# Altium footprint library Connector_PinHeader_1.00mm.PcbLib: 278 footprints (part 3 of 18)
Each footprint in its own frame and in the unit in brackets; x right, y up, seen from the top. Pads: shape width x height; smd on the part's side, far side on the other; paste and mask are expansions set on the pad; w line width, h text height; cw(c..) or ccw(c..) is an arc to the next point about the centre after c.
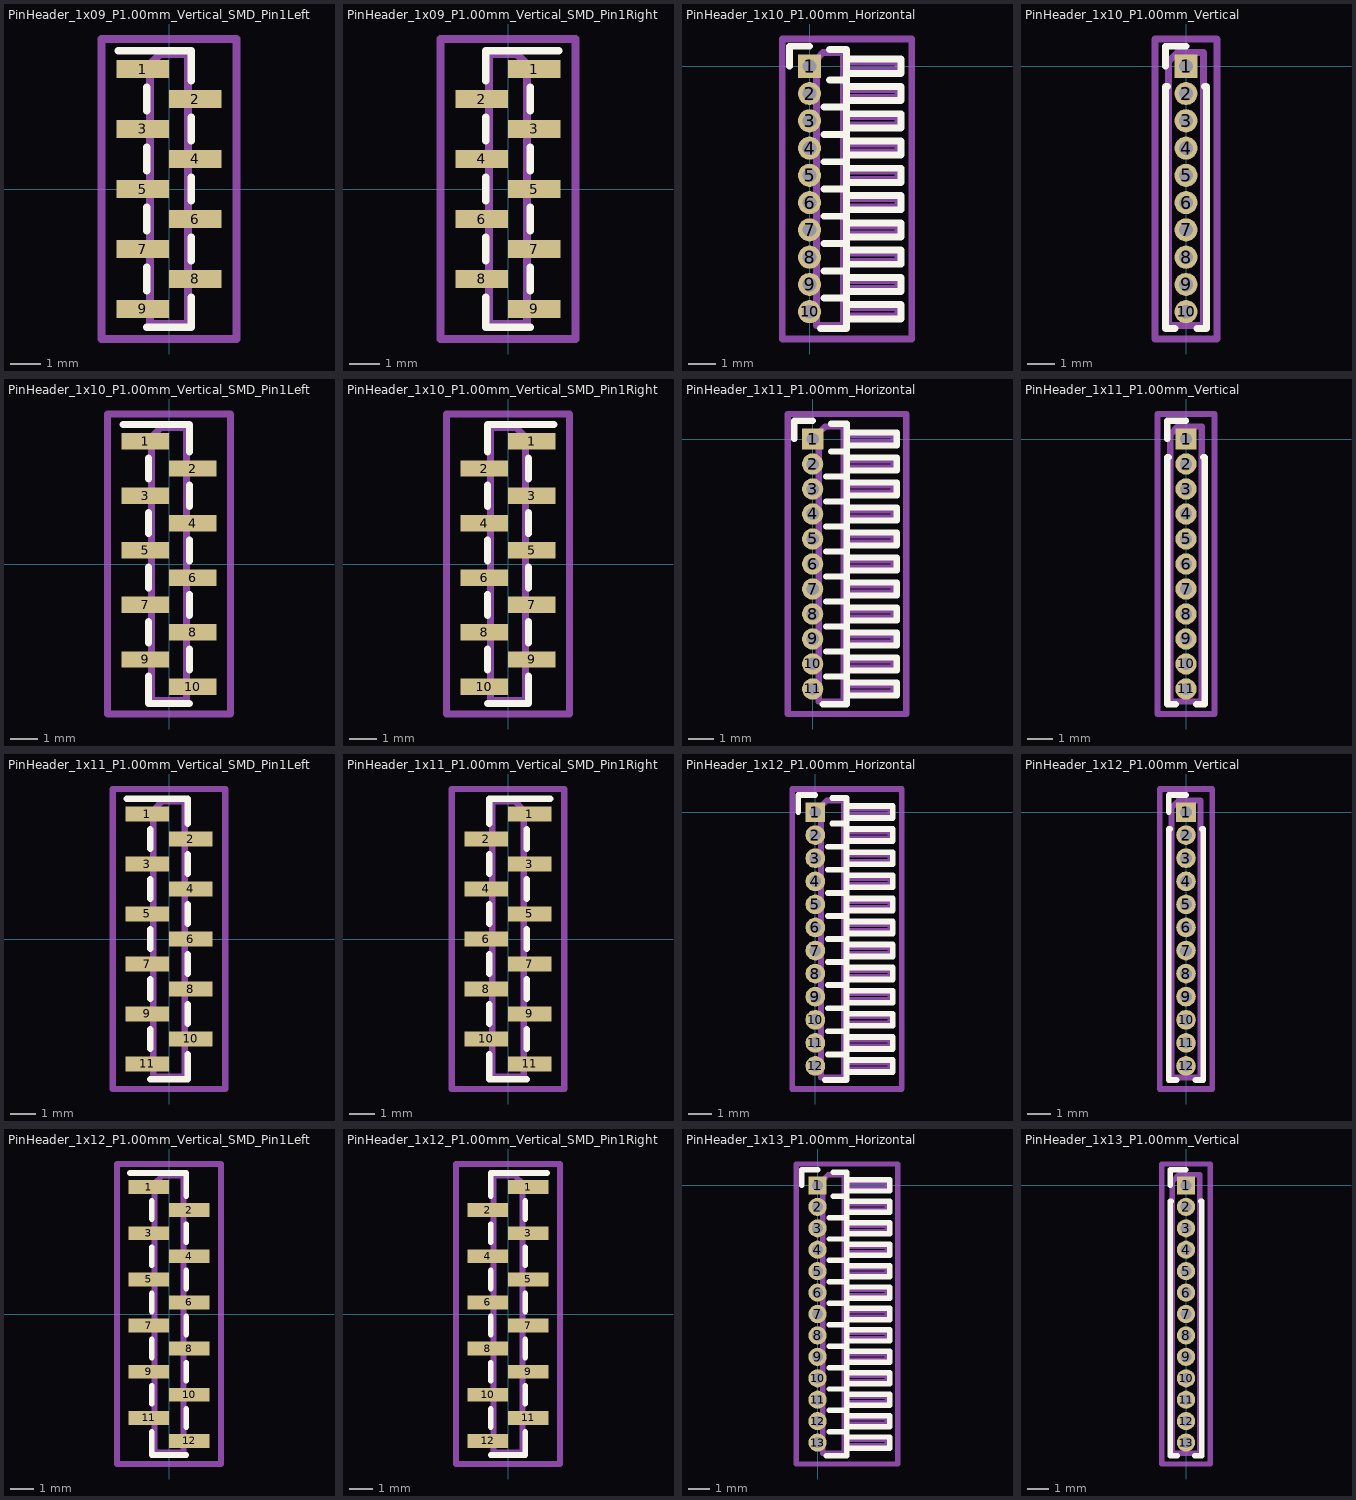
[diagram p2: the footprints below, top view; thin cyan lines are the x and y axes]

## PinHeader_1x09_P1.00mm_Vertical_SMD_Pin1Left [mm]
pads (9):
  rect 1.75x0.6 smd: 1(-0.875,4) 2(0.875,3) 3(-0.875,2) 4(0.875,1) 5(-0.875,0) 6(0.875,-1) 7(-0.875,-2) 8(0.875,-3) 9(-0.875,-4)
F.SilkS:
  lines w0.254: -1.69,4.61 -0.745,4.61 0.745,4.61 0.745,3.61 ; -0.745,-4.61 0.745,-4.61 0.745,-3.61 ; -0.745,-3.39 -0.745,-2.61 ; -0.745,-1.39 -0.745,-0.61 ; -0.745,0.61 -0.745,1.39 ; -0.745,2.61 -0.745,3.39 ; 0.745,-2.39 0.745,-1.61 ; 0.745,-0.39 0.745,0.39 ; 0.745,1.61 0.745,2.39
Top Assembly:
  lines w0.254: -0.635,-4.15 -1.25,-4.15 -1.25,-3.85 -0.635,-3.85 ; -0.635,-2.15 -1.25,-2.15 -1.25,-1.85 -0.635,-1.85 ; -0.635,-0.15 -1.25,-0.15 -1.25,0.15 -0.635,0.15 ; -0.635,1.85 -1.25,1.85 -1.25,2.15 -0.635,2.15 ; -0.635,3.85 -1.25,3.85 -1.25,4.15 -0.635,4.15 ; 0.635,-3.15 1.25,-3.15 1.25,-2.85 0.635,-2.85 ; 0.635,-1.15 1.25,-1.15 1.25,-0.85 0.635,-0.85 ; 0.635,0.85 1.25,0.85 1.25,1.15 0.635,1.15 ; 0.635,2.85 1.25,2.85 1.25,3.15 0.635,3.15 ; -0.635,4.15 -0.635,-4.5 0.635,-4.5 0.635,4.5 -0.285,4.5 -0.635,4.15
  text "'.Designator'" at 0.84,-4.047 h1
Top Courtyard:
  lines w0.254: -2.25,-5 2.25,-5 2.25,5 -2.25,5 -2.25,-5
Top Designator:
  text ".Designator" at -7.618,-0.508 h1.52

## PinHeader_1x09_P1.00mm_Vertical_SMD_Pin1Right [mm]
pads (9):
  rect 1.75x0.6 smd: 1(0.875,4) 2(-0.875,3) 3(0.875,2) 4(-0.875,1) 5(0.875,0) 6(-0.875,-1) 7(0.875,-2) 8(-0.875,-3) 9(0.875,-4)
F.SilkS:
  lines w0.254: -0.745,-3.61 -0.745,-4.61 0.745,-4.61 ; -0.745,-2.39 -0.745,-1.61 ; -0.745,-0.39 -0.745,0.39 ; -0.745,1.61 -0.745,2.39 ; -0.745,4.39 -0.745,3.61 -0.745,4.61 0.745,4.61 1.69,4.61 ; 0.745,-3.39 0.745,-2.61 ; 0.745,-1.39 0.745,-0.61 ; 0.745,0.61 0.745,1.39 ; 0.745,2.61 0.745,3.39
Top Assembly:
  lines w0.254: -0.635,-3.15 -1.25,-3.15 -1.25,-2.85 -0.635,-2.85 ; -0.635,-1.15 -1.25,-1.15 -1.25,-0.85 -0.635,-0.85 ; -0.635,0.85 -1.25,0.85 -1.25,1.15 -0.635,1.15 ; -0.635,2.85 -1.25,2.85 -1.25,3.15 -0.635,3.15 ; 0.635,-4.15 1.25,-4.15 1.25,-3.85 0.635,-3.85 ; 0.635,-2.15 1.25,-2.15 1.25,-1.85 0.635,-1.85 ; 0.635,-0.15 1.25,-0.15 1.25,0.15 0.635,0.15 ; 0.635,1.85 1.25,1.85 1.25,2.15 0.635,2.15 ; 0.635,3.85 1.25,3.85 1.25,4.15 0.635,4.15 ; 0.635,4.15 0.635,-4.5 -0.635,-4.5 -0.635,4.5 0.285,4.5 0.635,4.15
  text "'.Designator'" at 0.84,-4.047 h1
Top Courtyard:
  lines w0.254: -2.25,-5 2.25,-5 2.25,5 -2.25,5 -2.25,-5
Top Designator:
  text ".Designator" at -7.618,-0.508 h1.52

## PinHeader_1x10_P1.00mm_Horizontal [mm]
pads (10):
  rect 0.85x0.85 hole 0.5: 1(0,0)
  round 0.85 hole 0.5: 2(0,-1) 3(0,-2) 4(0,-3) 5(0,-4) 6(0,-5) 7(0,-6) 8(0,-7) 9(0,-8) 10(0,-9)
F.SilkS:
  lines w0.254: -0.735,0 -0.735,0.735 0,0.735 ; 0.41,-9.61 1.36,-9.61 1.36,0.61 0.735,0.61 ; 0.539,-8.5 1.36,-8.5 ; 0.539,-7.5 1.36,-7.5 ; 0.539,-6.5 1.36,-6.5 ; 0.539,-5.5 1.36,-5.5 ; 0.539,-4.5 1.36,-4.5 ; 0.539,-3.5 1.36,-3.5 ; 0.539,-2.5 1.36,-2.5 ; 0.539,-1.5 1.36,-1.5 ; 0.735,-0.5 1.36,-0.5 ; 1.36,-9.26 3.36,-9.26 3.36,-8.74 1.36,-8.74 ; 1.36,-8.26 3.36,-8.26 3.36,-7.74 1.36,-7.74 ; 1.36,-7.26 3.36,-7.26 3.36,-6.74 1.36,-6.74 ; 1.36,-6.26 3.36,-6.26 3.36,-5.74 1.36,-5.74 ; 1.36,-5.26 3.36,-5.26 3.36,-4.74 1.36,-4.74 ; 1.36,-4.26 3.36,-4.26 3.36,-3.74 1.36,-3.74 ; 1.36,-3.26 3.36,-3.26 3.36,-2.74 1.36,-2.74 ; 1.36,-2.26 3.36,-2.26 3.36,-1.74 1.36,-1.74 ; 1.36,-1.26 3.36,-1.26 3.36,-0.74 1.36,-0.74 ; 1.36,-0.26 3.36,-0.26 3.36,0.26 1.36,0.26 1.36,-0.26
Top Assembly:
  lines w0.254: 0.25,-9.15 -0.15,-9.15 -0.15,-8.85 0.25,-8.85 ; 0.25,-8.15 -0.15,-8.15 -0.15,-7.85 0.25,-7.85 ; 0.25,-7.15 -0.15,-7.15 -0.15,-6.85 0.25,-6.85 ; 0.25,-6.15 -0.15,-6.15 -0.15,-5.85 0.25,-5.85 ; 0.25,-5.15 -0.15,-5.15 -0.15,-4.85 0.25,-4.85 ; 0.25,-4.15 -0.15,-4.15 -0.15,-3.85 0.25,-3.85 ; 0.25,-3.15 -0.15,-3.15 -0.15,-2.85 0.25,-2.85 ; 0.25,-2.15 -0.15,-2.15 -0.15,-1.85 0.25,-1.85 ; 0.25,-1.15 -0.15,-1.15 -0.15,-0.85 0.25,-0.85 ; 0.25,-0.15 -0.15,-0.15 -0.15,0.15 0.25,0.15 ; 1.25,-9.15 3.25,-9.15 3.25,-8.85 1.25,-8.85 ; 1.25,-8.15 3.25,-8.15 3.25,-7.85 1.25,-7.85 ; 1.25,-7.15 3.25,-7.15 3.25,-6.85 1.25,-6.85 ; 1.25,-6.15 3.25,-6.15 3.25,-5.85 1.25,-5.85 ; 1.25,-5.15 3.25,-5.15 3.25,-4.85 1.25,-4.85 ; 1.25,-4.15 3.25,-4.15 3.25,-3.85 1.25,-3.85 ; 1.25,-3.15 3.25,-3.15 3.25,-2.85 1.25,-2.85 ; 1.25,-2.15 3.25,-2.15 3.25,-1.85 1.25,-1.85 ; 1.25,-1.15 3.25,-1.15 3.25,-0.85 1.25,-0.85 ; 1.25,-0.15 3.25,-0.15 3.25,0.15 1.25,0.15 ; 0.25,-9.5 1.25,-9.5 1.25,0.5 0.5,0.5 0.25,0.25 0.25,-9.5
  text "'.Designator'" at 1.254,-6.928 h0.6
Top Courtyard:
  lines w0.254: -1,-10 3.75,-10 3.75,1 -1,1 -1,-10
Top Designator:
  text ".Designator" at -6.243,-5.008 h1.52

## PinHeader_1x10_P1.00mm_Vertical [mm]
pads (10):
  rect 0.85x0.85 hole 0.5: 1(0,0)
  round 0.85 hole 0.5: 2(0,-1) 3(0,-2) 4(0,-3) 5(0,-4) 6(0,-5) 7(0,-6) 8(0,-7) 9(0,-8) 10(0,-9)
F.SilkS:
  lines w0.254: -0.745,0 -0.745,0.735 0,0.735 ; -0.686,-0.735 -0.745,-0.735 -0.745,-9.61 -0.41,-9.61 ; 0.41,-9.61 0.745,-9.61 0.745,-0.735 0.686,-0.735
Top Assembly:
  lines w0.254: -0.635,-9.5 0.635,-9.5 0.635,0.5 -0.318,0.5 -0.635,0.182 -0.635,-9.5
  text "'.Designator'" at 0.639,-7.576 h0.76
Top Courtyard:
  lines w0.254: -1.14,-10 1.14,-10 1.14,1 -1.14,1 -1.14,-10
Top Designator:
  text ".Designator" at -7.618,-5.008 h1.52

## PinHeader_1x10_P1.00mm_Vertical_SMD_Pin1Left [mm]
pads (10):
  rect 1.75x0.6 smd: 1(-0.875,4.5) 2(0.875,3.5) 3(-0.875,2.5) 4(0.875,1.5) 5(-0.875,0.5) 6(0.875,-0.5) 7(-0.875,-1.5) 8(0.875,-2.5) 9(-0.875,-3.5) 10(0.875,-4.5)
F.SilkS:
  lines w0.254: -1.69,5.11 -0.745,5.11 0.745,5.11 0.745,4.11 ; -0.745,-4.11 -0.745,-5.11 0.745,-5.11 ; -0.745,-2.89 -0.745,-2.11 ; -0.745,-0.89 -0.745,-0.11 ; -0.745,1.11 -0.745,1.89 ; -0.745,3.11 -0.745,3.89 ; 0.745,-3.89 0.745,-3.11 ; 0.745,-1.89 0.745,-1.11 ; 0.745,0.11 0.745,0.89 ; 0.745,2.11 0.745,2.89
Top Assembly:
  lines w0.254: -0.635,-3.65 -1.25,-3.65 -1.25,-3.35 -0.635,-3.35 ; -0.635,-1.65 -1.25,-1.65 -1.25,-1.35 -0.635,-1.35 ; -0.635,0.35 -1.25,0.35 -1.25,0.65 -0.635,0.65 ; -0.635,2.35 -1.25,2.35 -1.25,2.65 -0.635,2.65 ; -0.635,4.35 -1.25,4.35 -1.25,4.65 -0.635,4.65 ; 0.635,-4.65 1.25,-4.65 1.25,-4.35 0.635,-4.35 ; 0.635,-2.65 1.25,-2.65 1.25,-2.35 0.635,-2.35 ; 0.635,-0.65 1.25,-0.65 1.25,-0.35 0.635,-0.35 ; 0.635,1.35 1.25,1.35 1.25,1.65 0.635,1.65 ; 0.635,3.35 1.25,3.35 1.25,3.65 0.635,3.65 ; -0.635,4.65 -0.635,-5 0.635,-5 0.635,5 -0.285,5 -0.635,4.65
  text "'.Designator'" at 0.84,-4.047 h1
Top Courtyard:
  lines w0.254: -2.25,-5.5 2.25,-5.5 2.25,5.5 -2.25,5.5 -2.25,-5.5
Top Designator:
  text ".Designator" at -7.618,-0.508 h1.52

## PinHeader_1x10_P1.00mm_Vertical_SMD_Pin1Right [mm]
pads (10):
  rect 1.75x0.6 smd: 1(0.875,4.5) 2(-0.875,3.5) 3(0.875,2.5) 4(-0.875,1.5) 5(0.875,0.5) 6(-0.875,-0.5) 7(0.875,-1.5) 8(-0.875,-2.5) 9(0.875,-3.5) 10(-0.875,-4.5)
F.SilkS:
  lines w0.254: -0.745,-5.11 0.745,-5.11 0.745,-4.11 ; -0.745,-3.89 -0.745,-3.11 ; -0.745,-1.89 -0.745,-1.11 ; -0.745,0.11 -0.745,0.89 ; -0.745,2.11 -0.745,2.89 ; -0.745,4.89 -0.745,4.11 -0.745,5.11 0.745,5.11 1.69,5.11 ; 0.745,-2.89 0.745,-2.11 ; 0.745,-0.89 0.745,-0.11 ; 0.745,1.11 0.745,1.89 ; 0.745,3.11 0.745,3.89
Top Assembly:
  lines w0.254: -0.635,-4.65 -1.25,-4.65 -1.25,-4.35 -0.635,-4.35 ; -0.635,-2.65 -1.25,-2.65 -1.25,-2.35 -0.635,-2.35 ; -0.635,-0.65 -1.25,-0.65 -1.25,-0.35 -0.635,-0.35 ; -0.635,1.35 -1.25,1.35 -1.25,1.65 -0.635,1.65 ; -0.635,3.35 -1.25,3.35 -1.25,3.65 -0.635,3.65 ; 0.635,-3.65 1.25,-3.65 1.25,-3.35 0.635,-3.35 ; 0.635,-1.65 1.25,-1.65 1.25,-1.35 0.635,-1.35 ; 0.635,0.35 1.25,0.35 1.25,0.65 0.635,0.65 ; 0.635,2.35 1.25,2.35 1.25,2.65 0.635,2.65 ; 0.635,4.35 1.25,4.35 1.25,4.65 0.635,4.65 ; 0.635,4.65 0.635,-5 -0.635,-5 -0.635,5 0.285,5 0.635,4.65
  text "'.Designator'" at 0.84,-4.047 h1
Top Courtyard:
  lines w0.254: -2.25,-5.5 2.25,-5.5 2.25,5.5 -2.25,5.5 -2.25,-5.5
Top Designator:
  text ".Designator" at -7.618,-0.508 h1.52

## PinHeader_1x11_P1.00mm_Horizontal [mm]
pads (11):
  rect 0.85x0.85 hole 0.5: 1(0,0)
  round 0.85 hole 0.5: 2(0,-1) 3(0,-2) 4(0,-3) 5(0,-4) 6(0,-5) 7(0,-6) 8(0,-7) 9(0,-8) 10(0,-9) 11(0,-10)
F.SilkS:
  lines w0.254: -0.735,0 -0.735,0.735 0,0.735 ; 0.41,-10.61 1.36,-10.61 1.36,0.61 0.735,0.61 ; 0.539,-9.5 1.36,-9.5 ; 0.539,-8.5 1.36,-8.5 ; 0.539,-7.5 1.36,-7.5 ; 0.539,-6.5 1.36,-6.5 ; 0.539,-5.5 1.36,-5.5 ; 0.539,-4.5 1.36,-4.5 ; 0.539,-3.5 1.36,-3.5 ; 0.539,-2.5 1.36,-2.5 ; 0.539,-1.5 1.36,-1.5 ; 0.735,-0.5 1.36,-0.5 ; 1.36,-10.26 3.36,-10.26 3.36,-9.74 1.36,-9.74 ; 1.36,-9.26 3.36,-9.26 3.36,-8.74 1.36,-8.74 ; 1.36,-8.26 3.36,-8.26 3.36,-7.74 1.36,-7.74 ; 1.36,-7.26 3.36,-7.26 3.36,-6.74 1.36,-6.74 ; 1.36,-6.26 3.36,-6.26 3.36,-5.74 1.36,-5.74 ; 1.36,-5.26 3.36,-5.26 3.36,-4.74 1.36,-4.74 ; 1.36,-4.26 3.36,-4.26 3.36,-3.74 1.36,-3.74 ; 1.36,-3.26 3.36,-3.26 3.36,-2.74 1.36,-2.74 ; 1.36,-2.26 3.36,-2.26 3.36,-1.74 1.36,-1.74 ; 1.36,-1.26 3.36,-1.26 3.36,-0.74 1.36,-0.74 ; 1.36,-0.26 3.36,-0.26 3.36,0.26 1.36,0.26 1.36,-0.26
Top Assembly:
  lines w0.254: 0.25,-10.15 -0.15,-10.15 -0.15,-9.85 0.25,-9.85 ; 0.25,-9.15 -0.15,-9.15 -0.15,-8.85 0.25,-8.85 ; 0.25,-8.15 -0.15,-8.15 -0.15,-7.85 0.25,-7.85 ; 0.25,-7.15 -0.15,-7.15 -0.15,-6.85 0.25,-6.85 ; 0.25,-6.15 -0.15,-6.15 -0.15,-5.85 0.25,-5.85 ; 0.25,-5.15 -0.15,-5.15 -0.15,-4.85 0.25,-4.85 ; 0.25,-4.15 -0.15,-4.15 -0.15,-3.85 0.25,-3.85 ; 0.25,-3.15 -0.15,-3.15 -0.15,-2.85 0.25,-2.85 ; 0.25,-2.15 -0.15,-2.15 -0.15,-1.85 0.25,-1.85 ; 0.25,-1.15 -0.15,-1.15 -0.15,-0.85 0.25,-0.85 ; 0.25,-0.15 -0.15,-0.15 -0.15,0.15 0.25,0.15 ; 1.25,-10.15 3.25,-10.15 3.25,-9.85 1.25,-9.85 ; 1.25,-9.15 3.25,-9.15 3.25,-8.85 1.25,-8.85 ; 1.25,-8.15 3.25,-8.15 3.25,-7.85 1.25,-7.85 ; 1.25,-7.15 3.25,-7.15 3.25,-6.85 1.25,-6.85 ; 1.25,-6.15 3.25,-6.15 3.25,-5.85 1.25,-5.85 ; 1.25,-5.15 3.25,-5.15 3.25,-4.85 1.25,-4.85 ; 1.25,-4.15 3.25,-4.15 3.25,-3.85 1.25,-3.85 ; 1.25,-3.15 3.25,-3.15 3.25,-2.85 1.25,-2.85 ; 1.25,-2.15 3.25,-2.15 3.25,-1.85 1.25,-1.85 ; 1.25,-1.15 3.25,-1.15 3.25,-0.85 1.25,-0.85 ; 1.25,-0.15 3.25,-0.15 3.25,0.15 1.25,0.15 ; 0.25,-10.5 1.25,-10.5 1.25,0.5 0.5,0.5 0.25,0.25 0.25,-10.5
  text "'.Designator'" at 1.254,-7.428 h0.6
Top Courtyard:
  lines w0.254: -1,-11 3.75,-11 3.75,1 -1,1 -1,-11
Top Designator:
  text ".Designator" at -6.243,-5.508 h1.52

## PinHeader_1x11_P1.00mm_Vertical [mm]
pads (11):
  rect 0.85x0.85 hole 0.5: 1(0,0)
  round 0.85 hole 0.5: 2(0,-1) 3(0,-2) 4(0,-3) 5(0,-4) 6(0,-5) 7(0,-6) 8(0,-7) 9(0,-8) 10(0,-9) 11(0,-10)
F.SilkS:
  lines w0.254: -0.745,0 -0.745,0.735 0,0.735 ; -0.686,-0.735 -0.745,-0.735 -0.745,-10.61 -0.41,-10.61 ; 0.41,-10.61 0.745,-10.61 0.745,-0.735 0.686,-0.735
Top Assembly:
  lines w0.254: -0.635,-10.5 0.635,-10.5 0.635,0.5 -0.318,0.5 -0.635,0.182 -0.635,-10.5
  text "'.Designator'" at 0.639,-8.076 h0.76
Top Courtyard:
  lines w0.254: -1.14,-11 1.14,-11 1.14,1 -1.14,1 -1.14,-11
Top Designator:
  text ".Designator" at -7.618,-5.508 h1.52

## PinHeader_1x11_P1.00mm_Vertical_SMD_Pin1Left [mm]
pads (11):
  rect 1.75x0.6 smd: 1(-0.875,5) 2(0.875,4) 3(-0.875,3) 4(0.875,2) 5(-0.875,1) 6(0.875,0) 7(-0.875,-1) 8(0.875,-2) 9(-0.875,-3) 10(0.875,-4) 11(-0.875,-5)
F.SilkS:
  lines w0.254: -1.69,5.61 -0.745,5.61 0.745,5.61 0.745,4.61 ; -0.745,-5.61 0.745,-5.61 0.745,-4.61 ; -0.745,-4.39 -0.745,-3.61 ; -0.745,-2.39 -0.745,-1.61 ; -0.745,-0.39 -0.745,0.39 ; -0.745,1.61 -0.745,2.39 ; -0.745,3.61 -0.745,4.39 ; 0.745,-3.39 0.745,-2.61 ; 0.745,-1.39 0.745,-0.61 ; 0.745,0.61 0.745,1.39 ; 0.745,2.61 0.745,3.39
Top Assembly:
  lines w0.254: -0.635,-5.15 -1.25,-5.15 -1.25,-4.85 -0.635,-4.85 ; -0.635,-3.15 -1.25,-3.15 -1.25,-2.85 -0.635,-2.85 ; -0.635,-1.15 -1.25,-1.15 -1.25,-0.85 -0.635,-0.85 ; -0.635,0.85 -1.25,0.85 -1.25,1.15 -0.635,1.15 ; -0.635,2.85 -1.25,2.85 -1.25,3.15 -0.635,3.15 ; -0.635,4.85 -1.25,4.85 -1.25,5.15 -0.635,5.15 ; 0.635,-4.15 1.25,-4.15 1.25,-3.85 0.635,-3.85 ; 0.635,-2.15 1.25,-2.15 1.25,-1.85 0.635,-1.85 ; 0.635,-0.15 1.25,-0.15 1.25,0.15 0.635,0.15 ; 0.635,1.85 1.25,1.85 1.25,2.15 0.635,2.15 ; 0.635,3.85 1.25,3.85 1.25,4.15 0.635,4.15 ; -0.635,5.15 -0.635,-5.5 0.635,-5.5 0.635,5.5 -0.285,5.5 -0.635,5.15
  text "'.Designator'" at 0.84,-4.047 h1
Top Courtyard:
  lines w0.254: -2.25,-6 2.25,-6 2.25,6 -2.25,6 -2.25,-6
Top Designator:
  text ".Designator" at -7.618,-0.508 h1.52

## PinHeader_1x11_P1.00mm_Vertical_SMD_Pin1Right [mm]
pads (11):
  rect 1.75x0.6 smd: 1(0.875,5) 2(-0.875,4) 3(0.875,3) 4(-0.875,2) 5(0.875,1) 6(-0.875,0) 7(0.875,-1) 8(-0.875,-2) 9(0.875,-3) 10(-0.875,-4) 11(0.875,-5)
F.SilkS:
  lines w0.254: -0.745,-4.61 -0.745,-5.61 0.745,-5.61 ; -0.745,-3.39 -0.745,-2.61 ; -0.745,-1.39 -0.745,-0.61 ; -0.745,0.61 -0.745,1.39 ; -0.745,2.61 -0.745,3.39 ; -0.745,5.39 -0.745,4.61 -0.745,5.61 0.745,5.61 1.69,5.61 ; 0.745,-4.39 0.745,-3.61 ; 0.745,-2.39 0.745,-1.61 ; 0.745,-0.39 0.745,0.39 ; 0.745,1.61 0.745,2.39 ; 0.745,3.61 0.745,4.39
Top Assembly:
  lines w0.254: -0.635,-4.15 -1.25,-4.15 -1.25,-3.85 -0.635,-3.85 ; -0.635,-2.15 -1.25,-2.15 -1.25,-1.85 -0.635,-1.85 ; -0.635,-0.15 -1.25,-0.15 -1.25,0.15 -0.635,0.15 ; -0.635,1.85 -1.25,1.85 -1.25,2.15 -0.635,2.15 ; -0.635,3.85 -1.25,3.85 -1.25,4.15 -0.635,4.15 ; 0.635,-5.15 1.25,-5.15 1.25,-4.85 0.635,-4.85 ; 0.635,-3.15 1.25,-3.15 1.25,-2.85 0.635,-2.85 ; 0.635,-1.15 1.25,-1.15 1.25,-0.85 0.635,-0.85 ; 0.635,0.85 1.25,0.85 1.25,1.15 0.635,1.15 ; 0.635,2.85 1.25,2.85 1.25,3.15 0.635,3.15 ; 0.635,4.85 1.25,4.85 1.25,5.15 0.635,5.15 ; 0.635,5.15 0.635,-5.5 -0.635,-5.5 -0.635,5.5 0.285,5.5 0.635,5.15
  text "'.Designator'" at 0.84,-4.047 h1
Top Courtyard:
  lines w0.254: -2.25,-6 2.25,-6 2.25,6 -2.25,6 -2.25,-6
Top Designator:
  text ".Designator" at -7.618,-0.508 h1.52

## PinHeader_1x12_P1.00mm_Horizontal [mm]
pads (12):
  rect 0.85x0.85 hole 0.5: 1(0,0)
  round 0.85 hole 0.5: 2(0,-1) 3(0,-2) 4(0,-3) 5(0,-4) 6(0,-5) 7(0,-6) 8(0,-7) 9(0,-8) 10(0,-9) 11(0,-10) 12(0,-11)
F.SilkS:
  lines w0.254: -0.735,0 -0.735,0.735 0,0.735 ; 0.41,-11.61 1.36,-11.61 1.36,0.61 0.735,0.61 ; 0.539,-10.5 1.36,-10.5 ; 0.539,-9.5 1.36,-9.5 ; 0.539,-8.5 1.36,-8.5 ; 0.539,-7.5 1.36,-7.5 ; 0.539,-6.5 1.36,-6.5 ; 0.539,-5.5 1.36,-5.5 ; 0.539,-4.5 1.36,-4.5 ; 0.539,-3.5 1.36,-3.5 ; 0.539,-2.5 1.36,-2.5 ; 0.539,-1.5 1.36,-1.5 ; 0.735,-0.5 1.36,-0.5 ; 1.36,-11.26 3.36,-11.26 3.36,-10.74 1.36,-10.74 ; 1.36,-10.26 3.36,-10.26 3.36,-9.74 1.36,-9.74 ; 1.36,-9.26 3.36,-9.26 3.36,-8.74 1.36,-8.74 ; 1.36,-8.26 3.36,-8.26 3.36,-7.74 1.36,-7.74 ; 1.36,-7.26 3.36,-7.26 3.36,-6.74 1.36,-6.74 ; 1.36,-6.26 3.36,-6.26 3.36,-5.74 1.36,-5.74 ; 1.36,-5.26 3.36,-5.26 3.36,-4.74 1.36,-4.74 ; 1.36,-4.26 3.36,-4.26 3.36,-3.74 1.36,-3.74 ; 1.36,-3.26 3.36,-3.26 3.36,-2.74 1.36,-2.74 ; 1.36,-2.26 3.36,-2.26 3.36,-1.74 1.36,-1.74 ; 1.36,-1.26 3.36,-1.26 3.36,-0.74 1.36,-0.74 ; 1.36,-0.26 3.36,-0.26 3.36,0.26 1.36,0.26 1.36,-0.26
Top Assembly:
  lines w0.254: 0.25,-11.15 -0.15,-11.15 -0.15,-10.85 0.25,-10.85 ; 0.25,-10.15 -0.15,-10.15 -0.15,-9.85 0.25,-9.85 ; 0.25,-9.15 -0.15,-9.15 -0.15,-8.85 0.25,-8.85 ; 0.25,-8.15 -0.15,-8.15 -0.15,-7.85 0.25,-7.85 ; 0.25,-7.15 -0.15,-7.15 -0.15,-6.85 0.25,-6.85 ; 0.25,-6.15 -0.15,-6.15 -0.15,-5.85 0.25,-5.85 ; 0.25,-5.15 -0.15,-5.15 -0.15,-4.85 0.25,-4.85 ; 0.25,-4.15 -0.15,-4.15 -0.15,-3.85 0.25,-3.85 ; 0.25,-3.15 -0.15,-3.15 -0.15,-2.85 0.25,-2.85 ; 0.25,-2.15 -0.15,-2.15 -0.15,-1.85 0.25,-1.85 ; 0.25,-1.15 -0.15,-1.15 -0.15,-0.85 0.25,-0.85 ; 0.25,-0.15 -0.15,-0.15 -0.15,0.15 0.25,0.15 ; 1.25,-11.15 3.25,-11.15 3.25,-10.85 1.25,-10.85 ; 1.25,-10.15 3.25,-10.15 3.25,-9.85 1.25,-9.85 ; 1.25,-9.15 3.25,-9.15 3.25,-8.85 1.25,-8.85 ; 1.25,-8.15 3.25,-8.15 3.25,-7.85 1.25,-7.85 ; 1.25,-7.15 3.25,-7.15 3.25,-6.85 1.25,-6.85 ; 1.25,-6.15 3.25,-6.15 3.25,-5.85 1.25,-5.85 ; 1.25,-5.15 3.25,-5.15 3.25,-4.85 1.25,-4.85 ; 1.25,-4.15 3.25,-4.15 3.25,-3.85 1.25,-3.85 ; 1.25,-3.15 3.25,-3.15 3.25,-2.85 1.25,-2.85 ; 1.25,-2.15 3.25,-2.15 3.25,-1.85 1.25,-1.85 ; 1.25,-1.15 3.25,-1.15 3.25,-0.85 1.25,-0.85 ; 1.25,-0.15 3.25,-0.15 3.25,0.15 1.25,0.15 ; 0.25,-11.5 1.25,-11.5 1.25,0.5 0.5,0.5 0.25,0.25 0.25,-11.5
  text "'.Designator'" at 1.254,-7.928 h0.6
Top Courtyard:
  lines w0.254: -1,-12 3.75,-12 3.75,1 -1,1 -1,-12
Top Designator:
  text ".Designator" at -6.243,-6.008 h1.52

## PinHeader_1x12_P1.00mm_Vertical [mm]
pads (12):
  rect 0.85x0.85 hole 0.5: 1(0,0)
  round 0.85 hole 0.5: 2(0,-1) 3(0,-2) 4(0,-3) 5(0,-4) 6(0,-5) 7(0,-6) 8(0,-7) 9(0,-8) 10(0,-9) 11(0,-10) 12(0,-11)
F.SilkS:
  lines w0.254: -0.745,0 -0.745,0.735 0,0.735 ; -0.686,-0.735 -0.745,-0.735 -0.745,-11.61 -0.41,-11.61 ; 0.41,-11.61 0.745,-11.61 0.745,-0.735 0.686,-0.735
Top Assembly:
  lines w0.254: -0.635,-11.5 0.635,-11.5 0.635,0.5 -0.318,0.5 -0.635,0.182 -0.635,-11.5
  text "'.Designator'" at 0.639,-8.576 h0.76
Top Courtyard:
  lines w0.254: -1.14,-12 1.14,-12 1.14,1 -1.14,1 -1.14,-12
Top Designator:
  text ".Designator" at -7.618,-6.008 h1.52

## PinHeader_1x12_P1.00mm_Vertical_SMD_Pin1Left [mm]
pads (12):
  rect 1.75x0.6 smd: 1(-0.875,5.5) 2(0.875,4.5) 3(-0.875,3.5) 4(0.875,2.5) 5(-0.875,1.5) 6(0.875,0.5) 7(-0.875,-0.5) 8(0.875,-1.5) 9(-0.875,-2.5) 10(0.875,-3.5) 11(-0.875,-4.5) 12(0.875,-5.5)
F.SilkS:
  lines w0.254: -1.69,6.11 -0.745,6.11 0.745,6.11 0.745,5.11 ; -0.745,-5.11 -0.745,-6.11 0.745,-6.11 ; -0.745,-3.89 -0.745,-3.11 ; -0.745,-1.89 -0.745,-1.11 ; -0.745,0.11 -0.745,0.89 ; -0.745,2.11 -0.745,2.89 ; -0.745,4.11 -0.745,4.89 ; 0.745,-4.89 0.745,-4.11 ; 0.745,-2.89 0.745,-2.11 ; 0.745,-0.89 0.745,-0.11 ; 0.745,1.11 0.745,1.89 ; 0.745,3.11 0.745,3.89
Top Assembly:
  lines w0.254: -0.635,-4.65 -1.25,-4.65 -1.25,-4.35 -0.635,-4.35 ; -0.635,-2.65 -1.25,-2.65 -1.25,-2.35 -0.635,-2.35 ; -0.635,-0.65 -1.25,-0.65 -1.25,-0.35 -0.635,-0.35 ; -0.635,1.35 -1.25,1.35 -1.25,1.65 -0.635,1.65 ; -0.635,3.35 -1.25,3.35 -1.25,3.65 -0.635,3.65 ; -0.635,5.35 -1.25,5.35 -1.25,5.65 -0.635,5.65 ; 0.635,-5.65 1.25,-5.65 1.25,-5.35 0.635,-5.35 ; 0.635,-3.65 1.25,-3.65 1.25,-3.35 0.635,-3.35 ; 0.635,-1.65 1.25,-1.65 1.25,-1.35 0.635,-1.35 ; 0.635,0.35 1.25,0.35 1.25,0.65 0.635,0.65 ; 0.635,2.35 1.25,2.35 1.25,2.65 0.635,2.65 ; 0.635,4.35 1.25,4.35 1.25,4.65 0.635,4.65 ; -0.635,5.65 -0.635,-6 0.635,-6 0.635,6 -0.285,6 -0.635,5.65
  text "'.Designator'" at 0.84,-4.047 h1
Top Courtyard:
  lines w0.254: -2.25,-6.5 2.25,-6.5 2.25,6.5 -2.25,6.5 -2.25,-6.5
Top Designator:
  text ".Designator" at -7.618,-0.508 h1.52

## PinHeader_1x12_P1.00mm_Vertical_SMD_Pin1Right [mm]
pads (12):
  rect 1.75x0.6 smd: 1(0.875,5.5) 2(-0.875,4.5) 3(0.875,3.5) 4(-0.875,2.5) 5(0.875,1.5) 6(-0.875,0.5) 7(0.875,-0.5) 8(-0.875,-1.5) 9(0.875,-2.5) 10(-0.875,-3.5) 11(0.875,-4.5) 12(-0.875,-5.5)
F.SilkS:
  lines w0.254: -0.745,-6.11 0.745,-6.11 0.745,-5.11 ; -0.745,-4.89 -0.745,-4.11 ; -0.745,-2.89 -0.745,-2.11 ; -0.745,-0.89 -0.745,-0.11 ; -0.745,1.11 -0.745,1.89 ; -0.745,3.11 -0.745,3.89 ; -0.745,5.89 -0.745,5.11 -0.745,6.11 0.745,6.11 1.69,6.11 ; 0.745,-3.89 0.745,-3.11 ; 0.745,-1.89 0.745,-1.11 ; 0.745,0.11 0.745,0.89 ; 0.745,2.11 0.745,2.89 ; 0.745,4.11 0.745,4.89
Top Assembly:
  lines w0.254: -0.635,-5.65 -1.25,-5.65 -1.25,-5.35 -0.635,-5.35 ; -0.635,-3.65 -1.25,-3.65 -1.25,-3.35 -0.635,-3.35 ; -0.635,-1.65 -1.25,-1.65 -1.25,-1.35 -0.635,-1.35 ; -0.635,0.35 -1.25,0.35 -1.25,0.65 -0.635,0.65 ; -0.635,2.35 -1.25,2.35 -1.25,2.65 -0.635,2.65 ; -0.635,4.35 -1.25,4.35 -1.25,4.65 -0.635,4.65 ; 0.635,-4.65 1.25,-4.65 1.25,-4.35 0.635,-4.35 ; 0.635,-2.65 1.25,-2.65 1.25,-2.35 0.635,-2.35 ; 0.635,-0.65 1.25,-0.65 1.25,-0.35 0.635,-0.35 ; 0.635,1.35 1.25,1.35 1.25,1.65 0.635,1.65 ; 0.635,3.35 1.25,3.35 1.25,3.65 0.635,3.65 ; 0.635,5.35 1.25,5.35 1.25,5.65 0.635,5.65 ; 0.635,5.65 0.635,-6 -0.635,-6 -0.635,6 0.285,6 0.635,5.65
  text "'.Designator'" at 0.84,-4.047 h1
Top Courtyard:
  lines w0.254: -2.25,-6.5 2.25,-6.5 2.25,6.5 -2.25,6.5 -2.25,-6.5
Top Designator:
  text ".Designator" at -7.618,-0.508 h1.52

## PinHeader_1x13_P1.00mm_Horizontal [mm]
pads (13):
  rect 0.85x0.85 hole 0.5: 1(0,0)
  round 0.85 hole 0.5: 2(0,-1) 3(0,-2) 4(0,-3) 5(0,-4) 6(0,-5) 7(0,-6) 8(0,-7) 9(0,-8) 10(0,-9) 11(0,-10) 12(0,-11) 13(0,-12)
F.SilkS:
  lines w0.254: -0.735,0 -0.735,0.735 0,0.735 ; 0.41,-12.61 1.36,-12.61 1.36,0.61 0.735,0.61 ; 0.539,-11.5 1.36,-11.5 ; 0.539,-10.5 1.36,-10.5 ; 0.539,-9.5 1.36,-9.5 ; 0.539,-8.5 1.36,-8.5 ; 0.539,-7.5 1.36,-7.5 ; 0.539,-6.5 1.36,-6.5 ; 0.539,-5.5 1.36,-5.5 ; 0.539,-4.5 1.36,-4.5 ; 0.539,-3.5 1.36,-3.5 ; 0.539,-2.5 1.36,-2.5 ; 0.539,-1.5 1.36,-1.5 ; 0.735,-0.5 1.36,-0.5 ; 1.36,-12.26 3.36,-12.26 3.36,-11.74 1.36,-11.74 ; 1.36,-11.26 3.36,-11.26 3.36,-10.74 1.36,-10.74 ; 1.36,-10.26 3.36,-10.26 3.36,-9.74 1.36,-9.74 ; 1.36,-9.26 3.36,-9.26 3.36,-8.74 1.36,-8.74 ; 1.36,-8.26 3.36,-8.26 3.36,-7.74 1.36,-7.74 ; 1.36,-7.26 3.36,-7.26 3.36,-6.74 1.36,-6.74 ; 1.36,-6.26 3.36,-6.26 3.36,-5.74 1.36,-5.74 ; 1.36,-5.26 3.36,-5.26 3.36,-4.74 1.36,-4.74 ; 1.36,-4.26 3.36,-4.26 3.36,-3.74 1.36,-3.74 ; 1.36,-3.26 3.36,-3.26 3.36,-2.74 1.36,-2.74 ; 1.36,-2.26 3.36,-2.26 3.36,-1.74 1.36,-1.74 ; 1.36,-1.26 3.36,-1.26 3.36,-0.74 1.36,-0.74 ; 1.36,-0.26 3.36,-0.26 3.36,0.26 1.36,0.26 1.36,-0.26
Top Assembly:
  lines w0.254: 0.25,-12.15 -0.15,-12.15 -0.15,-11.85 0.25,-11.85 ; 0.25,-11.15 -0.15,-11.15 -0.15,-10.85 0.25,-10.85 ; 0.25,-10.15 -0.15,-10.15 -0.15,-9.85 0.25,-9.85 ; 0.25,-9.15 -0.15,-9.15 -0.15,-8.85 0.25,-8.85 ; 0.25,-8.15 -0.15,-8.15 -0.15,-7.85 0.25,-7.85 ; 0.25,-7.15 -0.15,-7.15 -0.15,-6.85 0.25,-6.85 ; 0.25,-6.15 -0.15,-6.15 -0.15,-5.85 0.25,-5.85 ; 0.25,-5.15 -0.15,-5.15 -0.15,-4.85 0.25,-4.85 ; 0.25,-4.15 -0.15,-4.15 -0.15,-3.85 0.25,-3.85 ; 0.25,-3.15 -0.15,-3.15 -0.15,-2.85 0.25,-2.85 ; 0.25,-2.15 -0.15,-2.15 -0.15,-1.85 0.25,-1.85 ; 0.25,-1.15 -0.15,-1.15 -0.15,-0.85 0.25,-0.85 ; 0.25,-0.15 -0.15,-0.15 -0.15,0.15 0.25,0.15 ; 1.25,-12.15 3.25,-12.15 3.25,-11.85 1.25,-11.85 ; 1.25,-11.15 3.25,-11.15 3.25,-10.85 1.25,-10.85 ; 1.25,-10.15 3.25,-10.15 3.25,-9.85 1.25,-9.85 ; 1.25,-9.15 3.25,-9.15 3.25,-8.85 1.25,-8.85 ; 1.25,-8.15 3.25,-8.15 3.25,-7.85 1.25,-7.85 ; 1.25,-7.15 3.25,-7.15 3.25,-6.85 1.25,-6.85 ; 1.25,-6.15 3.25,-6.15 3.25,-5.85 1.25,-5.85 ; 1.25,-5.15 3.25,-5.15 3.25,-4.85 1.25,-4.85 ; 1.25,-4.15 3.25,-4.15 3.25,-3.85 1.25,-3.85 ; 1.25,-3.15 3.25,-3.15 3.25,-2.85 1.25,-2.85 ; 1.25,-2.15 3.25,-2.15 3.25,-1.85 1.25,-1.85 ; 1.25,-1.15 3.25,-1.15 3.25,-0.85 1.25,-0.85 ; 1.25,-0.15 3.25,-0.15 3.25,0.15 1.25,0.15 ; 0.25,-12.5 1.25,-12.5 1.25,0.5 0.5,0.5 0.25,0.25 0.25,-12.5
  text "'.Designator'" at 1.254,-8.428 h0.6
Top Courtyard:
  lines w0.254: -1,-13 3.75,-13 3.75,1 -1,1 -1,-13
Top Designator:
  text ".Designator" at -6.243,-6.508 h1.52

## PinHeader_1x13_P1.00mm_Vertical [mm]
pads (13):
  rect 0.85x0.85 hole 0.5: 1(0,0)
  round 0.85 hole 0.5: 2(0,-1) 3(0,-2) 4(0,-3) 5(0,-4) 6(0,-5) 7(0,-6) 8(0,-7) 9(0,-8) 10(0,-9) 11(0,-10) 12(0,-11) 13(0,-12)
F.SilkS:
  lines w0.254: -0.745,0 -0.745,0.735 0,0.735 ; -0.686,-0.735 -0.745,-0.735 -0.745,-12.61 -0.41,-12.61 ; 0.41,-12.61 0.745,-12.61 0.745,-0.735 0.686,-0.735
Top Assembly:
  lines w0.254: -0.635,-12.5 0.635,-12.5 0.635,0.5 -0.318,0.5 -0.635,0.182 -0.635,-12.5
  text "'.Designator'" at 0.639,-9.076 h0.76
Top Courtyard:
  lines w0.254: -1.14,-13 1.14,-13 1.14,1 -1.14,1 -1.14,-13
Top Designator:
  text ".Designator" at -7.618,-6.508 h1.52